# Altium footprint library Misc.SMD.PcbLib: 88 footprints (part 5 of 6)
Each footprint in its own frame and in the unit in brackets; x right, y up, seen from the top. Pads: shape width x height; smd on the part's side, far side on the other; paste and mask are expansions set on the pad; w line width, h text height; cw(c..) or ccw(c..) is an arc to the next point about the centre after c.
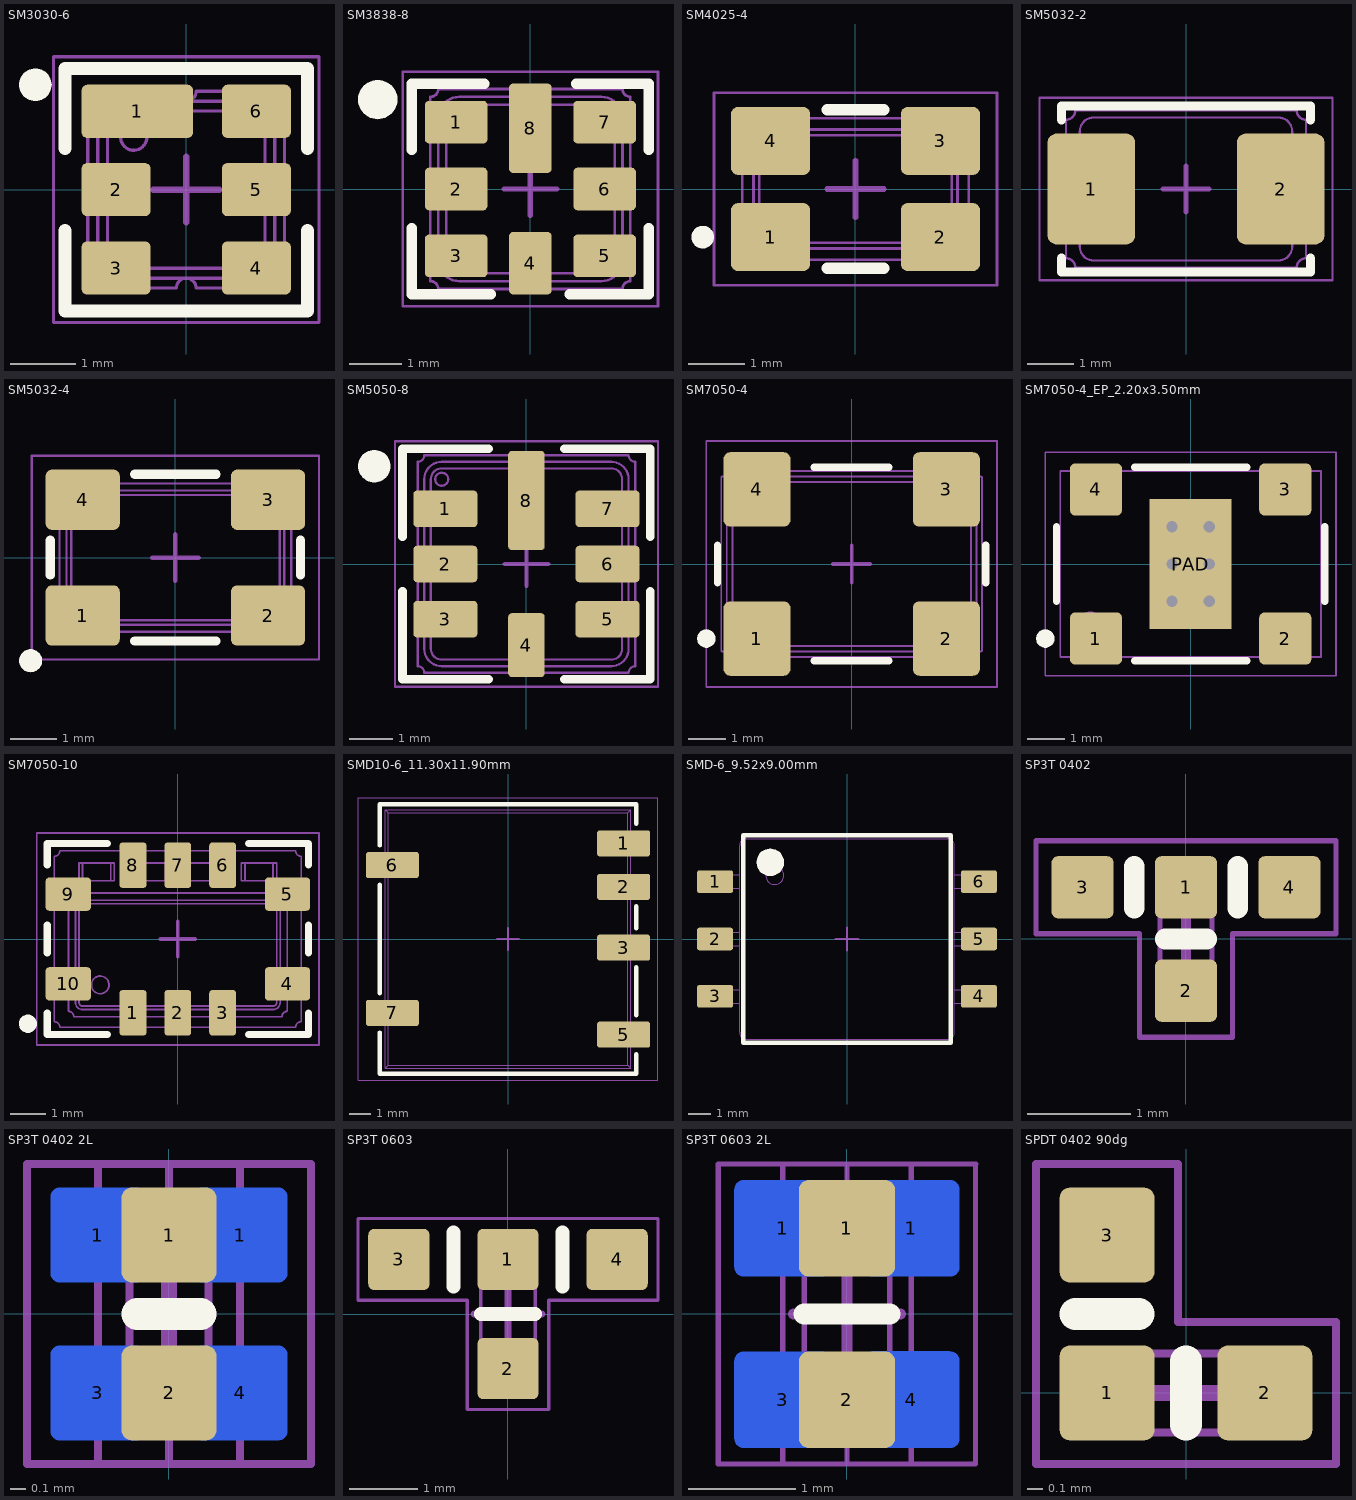
[diagram p4: the footprints below, top view; thin cyan lines are the x and y axes]

## SM3030-6 [mm] "SM3030 Package, 3.00x3.00mm, 6-Leads"
height 1.125
pads (7):
  rrect20% 1.7x0.81 smd: 1(-0.745,1.195)
  rrect20% 1.05x0.81 smd: 2(-1.07,0) 3(-1.07,-1.195) 4(1.07,-1.195) 5(1.07,0) 6(1.07,1.195)
  round 0.5 on Top Overlay: ""(-2.3,1.6)
Top Overlay:
  lines w0.2: -1.85,-0.625 -1.85,-1.85 1.85,-1.85 1.85,-0.625 ; -1.85,0.625 -1.85,1.85 1.85,1.85 1.85,0.625
Mechanical 1:
  circle w0.05: c-0.8,0.8 r0.2
  lines w0.05: -1.5,-1.35 cw(c-1.5,-1.5) -1.35,-1.5 -0.15,-1.5 cw(c0,-1.5) 0.15,-1.5 1.35,-1.5 cw(c1.5,-1.5) 1.5,-1.35 1.5,-0.15 cw(c1.5,0) 1.5,0.15 1.5,1.35 cw(c1.5,1.5) 1.35,1.5 0.15,1.5 cw(c0,1.5) -0.15,1.5 -1.35,1.5 cw(c-1.5,1.5) -1.5,1.35 -1.5,0.15 cw(c-1.5,0) -1.5,-0.15 -1.5,-1.35 ; -1.35,-0.95 ccw(c-0.95,-0.95) -0.95,-1.35 0.95,-1.35 ccw(c0.95,-0.95) 1.35,-0.95 1.35,0.95 ccw(c0.95,0.95) 0.95,1.35 -0.95,1.35 ccw(c-0.95,0.95) -1.35,0.95 -1.35,-0.95 ; -1.2,-0.95 ccw(c-0.95,-0.95) -0.95,-1.2 0.95,-1.2 ccw(c0.95,-0.95) 1.2,-0.95 1.2,0.95 ccw(c0.95,0.95) 0.95,1.2 -0.95,1.2 ccw(c-0.95,0.95) -1.2,0.95 -1.2,-0.95
Mechanical 15:
  lines w0.05: -2.025,-2.025 2.025,-2.025 2.025,2.025 -2.025,2.025 -2.025,-2.025
  lines w0.1: -0.5,0 0.5,0 ; 0,-0.5 0,0.5
3D body "SM3030-6.STEP": height 1.4, standoff 0, extent -1.5,-1.5 1.5,1.5

## SM3838-8 [mm] "SM3838 Package, 3.80x3.80mm, 8-Leads"
height 1.1
pads (9):
  rrect20% 1.19x0.81 smd: 1(-1.41,1.27) 2(-1.41,0) 3(-1.41,-1.27) 5(1.41,-1.27) 6(1.41,0) 7(1.41,1.27)
  rrect20% 0.81x1.19 smd: 4(0,-1.41)
  rrect20% 0.81x1.7 smd: 8(0,1.155)
  round 0.75 on Top Overlay: ""(-2.9,1.7)
Top Overlay:
  lines w0.2: -2.25,-0.75 -2.25,-2 -0.75,-2 ; -2.25,0.75 -2.25,2 -0.875,2 ; 0.75,-2 2.25,-2 2.25,-0.75 ; 0.875,2 2.25,2 2.25,0.75
Mechanical 1:
  circle w0.05: c-1.35,1.35 r0.15
  lines w0.05: -1.9,-1.75 cw(c-1.9,-1.9) -1.75,-1.9 -0.15,-1.9 cw(c0,-1.9) 0.15,-1.9 1.75,-1.9 cw(c1.9,-1.9) 1.9,-1.75 1.9,-1.42 cw(c1.9,-1.27) 1.9,-1.12 1.9,-0.15 cw(c1.9,0) 1.9,0.15 1.9,1.12 cw(c1.9,1.27) 1.9,1.42 1.9,1.75 cw(c1.9,1.9) 1.75,1.9 0.15,1.9 cw(c0,1.9) -0.15,1.9 -1.75,1.9 cw(c-1.9,1.9) -1.9,1.75 -1.9,1.42 cw(c-1.9,1.27) -1.9,1.12 -1.9,0.15 cw(c-1.9,0) -1.9,-0.15 -1.9,-1.12 cw(c-1.9,-1.27) -1.9,-1.42 -1.9,-1.75 ; -1.75,-1.35 ccw(c-1.35,-1.35) -1.35,-1.75 1.35,-1.75 ccw(c1.35,-1.35) 1.75,-1.35 1.75,1.35 ccw(c1.35,1.35) 1.35,1.75 -1.35,1.75 ccw(c-1.35,1.35) -1.75,1.35 -1.75,-1.35 ; -1.6,-1.35 ccw(c-1.35,-1.35) -1.35,-1.6 1.35,-1.6 ccw(c1.35,-1.35) 1.6,-1.35 1.6,1.35 ccw(c1.35,1.35) 1.35,1.6 -1.35,1.6 ccw(c-1.35,1.35) -1.6,1.35 -1.6,-1.35
Mechanical 15:
  lines w0.05: -2.425,-2.225 -2.425,2.225 2.425,2.225 2.425,-2.225 -2.425,-2.225
  lines w0.1: -0.5,0 0.5,0 ; 0,-0.5 0,0.5
3D body "SM3838-8.STEP": height 1.4, standoff 0, extent -1.9,-1.9 1.9,1.9

## SM4025-4 [mm] "SM4025 Package, 4.00x2.50mm, 4-Leads"
height 0.8
pads (4):
  rrect20% 1.4x1.2 smd: 1(-1.5,-0.85) 2(1.5,-0.85) 3(1.5,0.85) 4(-1.5,0.85)
Top Overlay:
  circle w0.2: c-2.7,-0.85 r0.1
  lines w0.2: -0.5,-1.4 0.5,-1.4 ; -0.5,1.4 0.5,1.4
Mechanical 1:
  lines w0.05: -1.319,-0.524 cw(c-1.401,-0.651) -1.307,-0.533 cw(c-1.401,-0.651) -1.287,-0.552 cw(c-1.4,-0.65) -1.281,-0.558 cw(c-1.399,-0.649) -1.278,-0.563 cw(c-1.397,-0.648) -1.274,-0.569 cw(c-1.397,-0.648) -1.27,-0.574 cw(c-1.399,-0.649) -1.267,-0.58 cw(c-1.4,-0.65) -1.264,-0.588 cw(c-1.401,-0.65) -1.258,-0.602 cw(c-1.402,-0.651) -1.252,-0.628 cw(c-1.4,-0.65) -1.251,-0.637 cw(c-1.398,-0.65) -1.25,-0.643 cw(c-1.397,-0.65) -1.25,-0.65 cw(c-1.397,-0.65) -1.25,-0.658 cw(c-1.399,-0.65) -1.251,-0.665 cw(c-1.4,-0.65) -1.252,-0.674 cw(c-1.402,-0.649) -1.266,-0.718 cw(c-1.399,-0.651) -1.27,-0.725 cw(c-1.397,-0.652) -1.273,-0.73 cw(c-1.397,-0.652) -1.278,-0.737 cw(c-1.399,-0.651) -1.282,-0.743 cw(c-1.4,-0.65) -1.288,-0.75 cw(c-1.401,-0.649) -1.325,-0.78 cw(c-1.399,-0.652) -1.332,-0.784 cw(c-1.399,-0.653) -1.338,-0.787 cw(c-1.399,-0.653) -1.344,-0.789 cw(c-1.399,-0.651) -1.351,-0.792 cw(c-1.4,-0.65) -1.36,-0.795 cw(c-1.4,-0.648) -1.407,-0.8 cw(c-1.4,-0.651) -1.414,-0.799 cw(c-1.4,-0.653) -1.421,-0.799 cw(c-1.4,-0.653) -1.428,-0.797 cw(c-1.4,-0.652) -1.435,-0.796 cw(c-1.4,-0.65) -1.445,-0.793 cw(c-1.399,-0.648) -1.487,-0.772 cw(c-1.401,-0.651) -1.493,-0.768 cw(c-1.402,-0.652) -1.498,-0.764 cw(c-1.402,-0.653) -1.503,-0.759 cw(c-1.401,-0.651) -1.509,-0.753 cw(c-1.4,-0.65) -1.515,-0.746 cw(c-1.398,-0.649) -1.539,-0.706 cw(c-1.401,-0.65) -1.542,-0.699 cw(c-1.403,-0.651) -1.544,-0.693 cw(c-1.403,-0.651) -1.546,-0.685 cw(c-1.401,-0.651) -1.547,-0.678 cw(c-1.4,-0.65) -1.549,-0.669 cw(c-1.398,-0.65) -1.547,-0.622 cw(c-1.401,-0.649) -1.546,-0.615 cw(c-1.403,-0.649) -1.544,-0.608 cw(c-1.403,-0.649) -1.542,-0.602 cw(c-1.402,-0.65) -1.54,-0.596 cw(c-1.4,-0.65) -1.536,-0.588 cw(c-1.399,-0.651) -1.53,-0.575 cw(c-1.398,-0.651) -1.513,-0.552 cw(c-1.4,-0.65) -1.507,-0.545 cw(c-1.401,-0.649) -1.503,-0.541 cw(c-1.402,-0.648) -1.488,-0.529 cw(c-1.4,-0.65) -1.481,-0.524 cw(c-1.399,-0.651) -1.469,-0.517 cw(c-1.399,-0.652) -1.442,-0.506 cw(c-1.4,-0.65) -1.434,-0.504 cw(c-1.4,-0.648) -1.427,-0.502 cw(c-1.4,-0.647) -1.408,-0.5 cw(c-1.4,-0.65) -1.4,-0.5 cw(c-1.4,-0.651) -1.386,-0.501 cw(c-1.4,-0.652) -1.357,-0.506 cw(c-1.4,-0.65) -1.349,-0.509 cw(c-1.399,-0.648) -1.343,-0.511 cw(c-1.399,-0.647) -1.338,-0.513 cw(c-1.399,-0.647) -1.332,-0.516 cw(c-1.399,-0.648) -1.326,-0.519 cw(c-1.4,-0.65) -1.319,-0.524 ; -2,-1.05 cw(c-2,-1.25) -1.8,-1.25 1.8,-1.25 cw(c2,-1.25) 2,-1.05 2,1.05 cw(c2,1.25) 1.8,1.25 -1.8,1.25 cw(c-2,1.25) -2,1.05 -2,-1.05 ; -1.8,-0.8 ccw(c-1.55,-0.8) -1.55,-1.05 1.55,-1.05 ccw(c1.55,-0.8) 1.8,-0.8 1.8,0.8 ccw(c1.55,0.8) 1.55,1.05 -1.55,1.05 ccw(c-1.55,0.8) -1.8,0.8 -1.8,-0.8 ; -1.7,-0.8 ccw(c-1.55,-0.8) -1.55,-0.95 1.55,-0.95 ccw(c1.55,-0.8) 1.7,-0.8 1.7,0.8 ccw(c1.55,0.8) 1.55,0.95 -1.55,0.95 ccw(c-1.55,0.8) -1.7,0.8 -1.7,-0.8
Mechanical 15:
  lines w0.05: -2.5,-1.7 -2.5,1.7 2.5,1.7 2.5,-1.7 -2.5,-1.7
  lines w0.1: -0.5,0 0.5,0 ; 0,-0.5 0,0.5
3D body "SM4025-4.STEP": height 0.8, standoff 0, extent -2,-1.25 2,1.25

## SM5032-2 [mm] "SMD Crystal, 5.0x3.2mm Package, 2 Leads"
height 1.3
pads (2):
  rrect20% 1.9x2.4 smd: 1(-2.05,0) 2(2.05,0)
Top Overlay:
  lines w0.2: -2.7,-1.5 -2.7,-1.8 2.7,-1.8 2.7,-1.5 ; -2.7,1.5 -2.7,1.8 2.7,1.8 2.7,1.5
Mechanical 1:
  lines w0.05: -2.6,-0.4 -2.4,-0.4 -2.4,0.4 -2.6,0.4 ; 2.6,-0.4 2.4,-0.4 2.4,0.4 2.6,0.4 ; -2.6,-1.5 cw(c-2.6,-1.7) -2.4,-1.7 2.4,-1.7 cw(c2.6,-1.7) 2.6,-1.5 2.6,-0.387 2.425,-0.387 2.425,0.387 2.6,0.387 2.6,1.5 cw(c2.6,1.7) 2.4,1.7 -2.4,1.7 cw(c-2.6,1.7) -2.6,1.5 -2.6,0.387 -2.425,0.387 -2.425,-0.387 -2.6,-0.387 -2.6,-1.5 ; -2.3,-1.25 ccw(c-2,-1.25) -2,-1.55 2,-1.55 ccw(c2,-1.25) 2.3,-1.25 2.3,1.25 ccw(c2,1.25) 2,1.55 -2,1.55 ccw(c-2,1.25) -2.3,1.25 -2.3,-1.25
Mechanical 15:
  lines w0.05: -3.175,-1.975 -3.175,1.975 3.175,1.975 3.175,-1.975 -3.175,-1.975
  lines w0.1: -0.5,0 0.5,0 ; 0,-0.5 0,0.5
3D body "Abracon_ABM3.STEP": height 1.3, standoff 0, extent -2.6,-1.7 2.6,1.7

## SM5032-4 [mm] "SMD Crystal, 5.0x3.2mm Package, 4 Leads"
height 1.5
pads (5):
  rrect20% 1.6x1.3 smd: 1(-2,-1.25) 2(2,-1.25) 3(2,1.25) 4(-2,1.25)
  round 0.5 on Top Overlay: ""(-3.125,-2.225)
Top Overlay:
  lines w0.2: -2.7,-0.375 -2.7,0.375 ; -0.875,-1.8 0.875,-1.8 ; -0.875,1.8 0.875,1.8 ; 2.7,-0.375 2.7,0.375
Mechanical 1:
  circle w0.05: c-1.9,-1 r0.2
  lines w0.05: -2.5,-1.3 cw(c-2.5,-1.6) -2.2,-1.6 2.2,-1.6 cw(c2.5,-1.6) 2.5,-1.3 2.5,1.3 cw(c2.5,1.6) 2.2,1.6 -2.2,1.6 cw(c-2.5,1.6) -2.5,1.3 -2.5,-1.3 ; -2.35,-1.1 ccw(c-2,-1.1) -2,-1.45 2,-1.45 ccw(c2,-1.1) 2.35,-1.1 2.35,1.1 ccw(c2,1.1) 2,1.45 -2,1.45 ccw(c-2,1.1) -2.35,1.1 -2.35,-1.1 ; -2.25,-1.1 ccw(c-2,-1.1) -2,-1.35 2,-1.35 ccw(c2,-1.1) 2.25,-1.1 2.25,1.1 ccw(c2,1.1) 2,1.35 -2,1.35 ccw(c-2,1.1) -2.25,1.1 -2.25,-1.1
Mechanical 15:
  lines w0.05: -3.1,-2.2 -3.1,2.2 3.1,2.2 3.1,-2.2 -3.1,-2.2
  lines w0.1: -0.5,0 0.5,0 ; 0,-0.5 0,0.5
3D body "FOX924B.STEP": height 1.5, standoff 0, extent -2.5,-1.6 2.5,1.6

## SM5050-8 [mm] "SM5050 Package, 5.00x5.00mm, 8-Leads"
height 1.7
pads (9):
  rrect20% 1.47x0.84 smd: 1(-1.865,1.27) 2(-1.865,0) 3(-1.865,-1.27) 5(1.865,-1.27) 6(1.865,0) 7(1.865,1.27)
  rrect20% 0.84x1.47 smd: 4(0,-1.865)
  rrect20% 0.84x2.28 smd: 8(0,1.46)
  round 0.75 on Top Overlay: ""(-3.5,2.25)
Top Overlay:
  lines w0.2: -2.85,-0.625 -2.85,-2.65 -0.875,-2.65 ; -2.85,0.625 -2.85,2.65 -0.875,2.65 ; 0.875,-2.65 2.85,-2.65 2.85,-0.625 ; 0.875,2.65 2.85,2.65 2.85,0.625
Mechanical 1:
  circle w0.05: c-1.95,1.95 r0.15
  lines w0.05: -2.5,-2.35 cw(c-2.5,-2.5) -2.35,-2.5 -0.15,-2.5 cw(c0,-2.5) 0.15,-2.5 2.35,-2.5 cw(c2.5,-2.5) 2.5,-2.35 2.5,-1.42 cw(c2.5,-1.27) 2.5,-1.12 2.5,-0.15 cw(c2.5,0) 2.5,0.15 2.5,1.12 cw(c2.5,1.27) 2.5,1.42 2.5,2.35 cw(c2.5,2.5) 2.35,2.5 0.15,2.5 cw(c0,2.5) -0.15,2.5 -2.35,2.5 cw(c-2.5,2.5) -2.5,2.35 -2.5,1.42 cw(c-2.5,1.27) -2.5,1.12 -2.5,0.15 cw(c-2.5,0) -2.5,-0.15 -2.5,-1.12 cw(c-2.5,-1.27) -2.5,-1.42 -2.5,-2.35 ; -2.35,-1.95 ccw(c-1.95,-1.95) -1.95,-2.35 1.95,-2.35 ccw(c1.95,-1.95) 2.35,-1.95 2.35,1.95 ccw(c1.95,1.95) 1.95,2.35 -1.95,2.35 ccw(c-1.95,1.95) -2.35,1.95 -2.35,-1.95 ; -2.2,-1.95 ccw(c-1.95,-1.95) -1.95,-2.2 1.95,-2.2 ccw(c1.95,-1.95) 2.2,-1.95 2.2,1.95 ccw(c1.95,1.95) 1.95,2.2 -1.95,2.2 ccw(c-1.95,1.95) -2.2,1.95 -2.2,-1.95
Mechanical 15:
  lines w0.05: -3.025,-2.825 -3.025,2.825 3.025,2.825 3.025,-2.825 -3.025,-2.825
  lines w0.1: -0.5,0 0.5,0 ; 0,-0.5 0,0.5
3D body "SM5050-8.STEP": height 1.7, standoff 0, extent -2.5,-2.5 2.5,2.5

## SM7050-4 [mm] "SMD Crystal, 7.0x5.0mm Package, 4 Leads"
height 1.8
pads (5):
  rrect20% 1.8x2 smd: 1(-2.54,-2) 2(2.54,-2) 3(2.54,2) 4(-2.54,2)
  round 0.5 on Top Overlay: ""(-3.9,-2)
Top Overlay:
  lines w0.2: -3.6,-0.5 -3.6,0.5 ; -1,-2.6 1,-2.6 ; -1,2.6 1,2.6 ; 3.6,-0.5 3.6,0.5
Mechanical 1:
  lines w0.05: -3.5,-2.341 cw(c-3.5,-2.5) -3.341,-2.5 3.341,-2.5 cw(c3.5,-2.5) 3.5,-2.341 3.5,2.341 cw(c3.5,2.5) 3.341,2.5 -3.341,2.5 cw(c-3.5,2.5) -3.5,2.341 -3.5,-2.341 ; -3.35,-1.8 ccw(c-2.8,-1.8) -2.8,-2.35 2.8,-2.35 ccw(c2.8,-1.8) 3.35,-1.8 3.35,1.8 ccw(c2.8,1.8) 2.8,2.35 -2.8,2.35 ccw(c-2.8,1.8) -3.35,1.8 -3.35,-1.8 ; -3.2,-1.8 ccw(c-2.8,-1.8) -2.8,-2.2 2.8,-2.2 ccw(c2.8,-1.8) 3.2,-1.8 3.2,1.8 ccw(c2.8,1.8) 2.8,2.2 -2.8,2.2 ccw(c-2.8,1.8) -3.2,1.8 -3.2,-1.8 ; -2.898,-1.638 ccw(c-2.6,-1.6) -2.895,-1.656 ccw(c-2.603,-1.601) -2.891,-1.671 ccw(c-2.606,-1.602) -2.888,-1.686 ccw(c-2.606,-1.602) -2.884,-1.698 ccw(c-2.603,-1.601) -2.878,-1.712 ccw(c-2.597,-1.598) -2.83,-1.793 ccw(c-2.599,-1.6) -2.817,-1.807 ccw(c-2.602,-1.602) -2.807,-1.817 ccw(c-2.604,-1.605) -2.796,-1.828 ccw(c-2.604,-1.605) -2.785,-1.836 ccw(c-2.602,-1.602) -2.773,-1.845 ccw(c-2.598,-1.597) -2.689,-1.886 ccw(c-2.599,-1.6) -2.671,-1.891 ccw(c-2.6,-1.603) -2.656,-1.895 ccw(c-2.601,-1.607) -2.641,-1.897 ccw(c-2.601,-1.606) -2.628,-1.899 ccw(c-2.601,-1.603) -2.613,-1.9 ccw(c-2.601,-1.596) -2.52,-1.889 ccw(c-2.6,-1.6) -2.502,-1.883 ccw(c-2.599,-1.603) -2.488,-1.878 ccw(c-2.597,-1.606) -2.476,-1.873 ccw(c-2.597,-1.606) -2.464,-1.867 ccw(c-2.599,-1.603) -2.451,-1.86 ccw(c-2.602,-1.597) -2.376,-1.8 ccw(c-2.6,-1.6) -2.364,-1.785 ccw(c-2.597,-1.602) -2.355,-1.773 ccw(c-2.594,-1.604) -2.347,-1.761 ccw(c-2.595,-1.603) -2.34,-1.749 ccw(c-2.598,-1.602) -2.333,-1.736 ccw(c-2.604,-1.599) -2.304,-1.649 ccw(c-2.6,-1.599) -2.302,-1.63 ccw(c-2.597,-1.6) -2.3,-1.615 ccw(c-2.594,-1.6) -2.3,-1.6 ccw(c-2.593,-1.6) -2.3,-1.587 ccw(c-2.597,-1.6) -2.301,-1.574 ccw(c-2.6,-1.6) -2.303,-1.557 ccw(c-2.604,-1.601) -2.316,-1.504 ccw(c-2.603,-1.601) -2.327,-1.476 ccw(c-2.6,-1.599) -2.334,-1.46 ccw(c-2.597,-1.598) -2.341,-1.449 ccw(c-2.594,-1.596) -2.348,-1.438 ccw(c-2.594,-1.596) -2.355,-1.427 ccw(c-2.597,-1.598) -2.363,-1.416 ccw(c-2.599,-1.6) -2.374,-1.403 ccw(c-2.603,-1.603) -2.413,-1.365 ccw(c-2.602,-1.602) -2.438,-1.348 ccw(c-2.6,-1.599) -2.452,-1.339 ccw(c-2.599,-1.597) -2.464,-1.333 ccw(c-2.597,-1.594) -2.476,-1.327 ccw(c-2.597,-1.594) -2.486,-1.322 ccw(c-2.598,-1.597) -2.498,-1.318 ccw(c-2.599,-1.6) -2.514,-1.312 ccw(c-2.601,-1.604) -2.572,-1.301 ccw(c-2.601,-1.603) -2.6,-1.3 ccw(c-2.6,-1.6) -2.617,-1.301 ccw(c-2.601,-1.594) -2.654,-1.305 ccw(c-2.6,-1.596) -2.667,-1.308 ccw(c-2.6,-1.599) -2.684,-1.312 ccw(c-2.598,-1.604) -2.738,-1.334 ccw(c-2.599,-1.603) -2.762,-1.348 ccw(c-2.601,-1.6) -2.776,-1.357 ccw(c-2.604,-1.595) -2.805,-1.381 ccw(c-2.602,-1.597) -2.815,-1.391 ccw(c-2.6,-1.599) -2.826,-1.403 ccw(c-2.597,-1.602) -2.86,-1.451 ccw(c-2.598,-1.602) -2.873,-1.476 ccw(c-2.601,-1.6) -2.88,-1.491 ccw(c-2.604,-1.599) -2.884,-1.504 ccw(c-2.607,-1.598) -2.888,-1.516 ccw(c-2.606,-1.598) -2.891,-1.529 ccw(c-2.603,-1.599) -2.895,-1.544 ccw(c-2.596,-1.6) -2.898,-1.638
Mechanical 15:
  lines w0.05: -3.9,-3.3 -3.9,3.3 3.9,3.3 3.9,-3.3 -3.9,-3.3
  lines w0.1: -0.5,0 0.5,0 ; 0,-0.5 0,0.5
3D body "SM7050-4.STEP": height 1.8, standoff 0, extent -3.5,-2.5 3.5,2.5

## SM7050-4_EP_2.20x3.50mm [mm] "SMD Crystal, 5.0x3.2mm Package, 2.2x3.5mm Exposed Pad, 4 Leads"
height 0.85
pads (6):
  rrect20% 1.4x1.4 smd: 1(-2.54,-2) 2(2.54,-2) 3(2.54,2) 4(-2.54,2)
  rect 2.2x3.5 smd: PAD(0,0)
  round 0.5 on Top Overlay: ""(-3.9,-2)
via 0.5,-1 diameter 0.6 hole 0.3
via -0.5,-1 diameter 0.6 hole 0.3
via -0.5,1 diameter 0.6 hole 0.3
via 0.5,1 diameter 0.6 hole 0.3
via 0.5,0 diameter 0.6 hole 0.3
via -0.5,0 diameter 0.6 hole 0.3
Top Overlay:
  lines w0.2: -3.6,-1 -3.6,1 ; -1.5,-2.6 1.5,-2.6 ; -1.5,2.6 1.5,2.6 ; 3.6,-1 3.6,1
Mechanical 1:
  lines w0.05: -3.5,-2.5 3.5,-2.5 3.5,2.5 -3.5,2.5 -3.5,-2.5 ; -3.1,-1.7 ccw(c-2.705,-1.7) -3.099,-1.723 ccw(c-2.697,-1.699) -3.08,-1.824 ccw(c-2.7,-1.7) -3.07,-1.852 ccw(c-2.704,-1.702) -3.061,-1.873 ccw(c-2.704,-1.702) -3.051,-1.893 ccw(c-2.698,-1.698) -2.988,-1.977 ccw(c-2.7,-1.7) -2.966,-1.998 ccw(c-2.703,-1.704) -2.949,-2.013 ccw(c-2.703,-1.703) -2.931,-2.027 ccw(c-2.699,-1.698) -2.84,-2.075 ccw(c-2.7,-1.7) -2.812,-2.084 ccw(c-2.701,-1.704) -2.79,-2.09 ccw(c-2.701,-1.705) -2.768,-2.094 ccw(c-2.7,-1.697) -2.662,-2.098 ccw(c-2.7,-1.7) -2.632,-2.094 ccw(c-2.699,-1.705) -2.61,-2.09 ccw(c-2.699,-1.704) -2.588,-2.084 ccw(c-2.701,-1.698) -2.494,-2.043 ccw(c-2.7,-1.7) -2.469,-2.027 ccw(c-2.697,-1.703) -2.451,-2.013 ccw(c-2.697,-1.704) -2.434,-1.998 ccw(c-2.702,-1.698) -2.365,-1.919 ccw(c-2.7,-1.7) -2.349,-1.893 ccw(c-2.696,-1.702) -2.339,-1.873 ccw(c-2.696,-1.702) -2.33,-1.852 ccw(c-2.703,-1.699) -2.304,-1.758 ccw(c-2.7,-1.7) -2.301,-1.725 ccw(c-2.696,-1.7) -2.3,-1.7 ccw(c-2.695,-1.7) -2.301,-1.677 ccw(c-2.703,-1.701) -2.32,-1.576 ccw(c-2.7,-1.7) -2.33,-1.548 ccw(c-2.696,-1.698) -2.339,-1.527 ccw(c-2.696,-1.698) -2.349,-1.507 ccw(c-2.702,-1.702) -2.412,-1.423 ccw(c-2.7,-1.7) -2.434,-1.402 ccw(c-2.697,-1.696) -2.451,-1.387 ccw(c-2.697,-1.696) -2.467,-1.375 ccw(c-2.701,-1.702) -2.565,-1.324 ccw(c-2.699,-1.696) -2.63,-1.306 ccw(c-2.7,-1.703) -2.743,-1.302 ccw(c-2.701,-1.696) -2.807,-1.315 ccw(c-2.699,-1.702) -2.912,-1.361 ccw(c-2.702,-1.697) -2.963,-1.398 ccw(c-2.698,-1.702) -3.038,-1.486 ccw(c-2.703,-1.698) -3.068,-1.543 ccw(c-2.697,-1.701) -3.097,-1.652 ccw(c-2.701,-1.7) -3.099,-1.68 ccw(c-2.705,-1.7) -3.1,-1.7
Mechanical 15:
  lines w0.05: -3.9,-3 -3.9,3 3.9,3 3.9,-3 -3.9,-3
  lines w0.1: -0.5,0 0.5,0 ; 0,-0.5 0,0.5
3D body "SM7050-4_EP_2.20x3.50mm.STEP": height 0.85, standoff 0, extent -3.5,-2.5 3.5,2.5

## SM7050-10 [mm] "SMD Crystal, 7.0x5.0mm Package, 10 Leads"
height 2.4
pads (10):
  rrect20% 0.76x1.28 smd: 1(-1.27,-2.09) 2(0,-2.09) 3(1.27,-2.09) 6(1.27,2.09) 7(0,2.09) 8(-1.27,2.09)
  rrect20% 1.28x0.94 smd: 4(3.105,-1.27) 5(3.105,1.27) 9(-3.105,1.27) 10(-3.105,-1.27)
Top Overlay:
  region: -4.25,-2.65 -4.3,-2.65 -4.392,-2.612 -4.462,-2.542 -4.5,-2.45 -4.5,-2.4 -4.5,-2.35 -4.462,-2.258 -4.392,-2.188 -4.3,-2.15 -4.25,-2.15 -4.2,-2.15 -4.108,-2.188 -4.038,-2.258 -4,-2.35 -4,-2.4 -4,-2.45 -4.038,-2.542 -4.108,-2.612 -4.2,-2.65
  lines w0.2: -3.7,-2.1 -3.7,-2.7 -2,-2.7 ; -3.7,-0.4 -3.7,0.4 ; -3.7,2.1 -3.7,2.7 -2,2.7 ; 2,-2.7 3.7,-2.7 3.7,-2.1 ; 2,2.7 3.7,2.7 3.7,2.1 ; 3.7,-0.4 3.7,0.4
Mechanical 1:
  circle w0.05: c-2.2,-1.3 r0.25
  lines w0.05: -2.7,1.65 -2.7,2.15 ; -1.9,1.65 -1.9,2.15 ; -1.15,1.65 -1.15,2.15 ; -0.35,1.65 -0.35,2.15 ; 0.35,1.65 0.35,2.15 ; 1.15,1.65 1.15,2.15 ; 1.9,1.65 1.9,2.15 ; 2.7,1.65 2.7,2.15 ; -3.5,-2.341 cw(c-3.5,-2.5) -3.341,-2.5 -1.429,-2.5 cw(c-1.27,-2.5) -1.111,-2.5 -0.159,-2.5 cw(c0,-2.5) 0.159,-2.5 1.111,-2.5 cw(c1.27,-2.5) 1.429,-2.5 3.341,-2.5 cw(c3.5,-2.5) 3.5,-2.341 3.5,-1.429 cw(c3.5,-1.27) 3.5,-1.111 3.5,1.111 cw(c3.5,1.27) 3.5,1.429 3.5,2.341 cw(c3.5,2.5) 3.341,2.5 1.429,2.5 cw(c1.27,2.5) 1.111,2.5 0.159,2.5 cw(c0,2.5) -0.159,2.5 -1.111,2.5 cw(c-1.27,2.5) -1.429,2.5 -3.341,2.5 cw(c-3.5,2.5) -3.5,2.341 -3.5,1.429 cw(c-3.5,1.27) -3.5,1.111 -3.5,-1.111 cw(c-3.5,-1.27) -3.5,-1.429 -3.5,-2.341 ; -3.1,-2.05 cw(c-3.1,-2.2) -2.95,-2.2 2.95,-2.2 cw(c3.1,-2.2) 3.1,-2.05 3.1,1.15 cw(c3.1,1.3) 2.95,1.3 -2.95,1.3 cw(c-3.1,1.3) -3.1,1.15 -3.1,-2.05 ; -2.9,-1.8 ccw(c-2.7,-1.8) -2.7,-2 2.7,-2 ccw(c2.7,-1.8) 2.9,-1.8 2.9,0.9 ccw(c2.7,0.9) 2.7,1.1 -2.7,1.1 ccw(c-2.7,0.9) -2.9,0.9 -2.9,-1.8 ; -2.8,-1.8 ccw(c-2.7,-1.8) -2.7,-1.9 2.7,-1.9 ccw(c2.7,-1.8) 2.8,-1.8 2.8,0.9 ccw(c2.7,0.9) 2.7,1 -2.7,1 ccw(c-2.7,0.9) -2.8,0.9 -2.8,-1.8 ; -2.8,1.65 -2.8,2.15 -1.8,2.15 -1.8,1.65 -2.8,1.65 ; -1.25,1.65 -1.25,2.15 -0.25,2.15 -0.25,1.65 -1.25,1.65 ; 0.25,1.65 0.25,2.15 1.25,2.15 1.25,1.65 0.25,1.65 ; 1.8,1.65 1.8,2.15 2.8,2.15 2.8,1.65 1.8,1.65
Mechanical 15:
  lines w0.05: -4,-3 4,-3 4,3 -4,3 -4,-3
  lines w0.1: -0.5,0 0.5,0 ; 0,-0.5 0,0.5
3D body "SM7050-10.STEP": height 2.4, standoff 0, extent -3.5,-2.5 3.5,2.5

## SMD10-6_11.30x11.90mm [mm] "SMD10 Package, 11.30x11.90mm, 6-Leads"
height 8
pads (6):
  rrect20% 2.44x1.2 smd: 1(5.32,4.4) 2(5.32,2.4) 3(5.32,-0.4) 5(5.32,-4.4) 6(-5.32,3.4) 7(-5.32,-3.4)
Top Overlay:
  lines w0.2: -5.9,-4.3 -5.9,-6.2 5.9,-6.2 5.9,-5.3 ; -5.9,-2.5 -5.9,2.5 ; -5.9,4.3 -5.9,6.2 5.9,6.2 5.9,5.3 ; 5.9,-3.5 5.9,-1.3 ; 5.9,0.5 5.9,1.5
Mechanical 1:
  lines w0.05: -5.645,-3.65 -6.05,-3.65 -6.05,-3.15 -5.645,-3.15 ; -5.645,3.15 -6.05,3.15 -6.05,3.65 -5.645,3.65 ; 5.645,-4.65 6.05,-4.65 6.05,-4.15 5.645,-4.15 ; 5.645,-0.65 6.05,-0.65 6.05,-0.15 5.645,-0.15 ; 5.645,2.15 6.05,2.15 6.05,2.65 5.645,2.65 ; 5.645,4.15 6.05,4.15 6.05,4.65 5.645,4.65 ; -5.65,-5.95 5.65,-5.95 ; -5.65,-5.95 -5.65,-5.45 -5.645,-5.45 -5.645,5.45 -5.65,5.45 -5.65,5.95 ; -5.65,-5.95 -5.517,-5.817 ; -5.65,5.95 5.65,5.95 ; -5.65,5.95 -5.517,5.817 ; -5.517,-5.817 -5.517,5.817 ; -5.517,-5.817 5.517,-5.817 ; -5.517,5.817 5.517,5.817 ; 5.517,-5.817 5.65,-5.95 ; 5.517,-5.817 5.517,5.817 ; 5.517,5.817 5.65,5.95 ; 5.65,-5.95 5.65,-5.45 5.645,-5.45 5.645,5.45 5.65,5.45 5.65,5.95
Mechanical 15:
  lines w0.05: -6.9,-6.5 6.9,-6.5 6.9,6.5 -6.9,6.5 -6.9,-6.5
  lines w0.1: -0.5,0 0.5,0 ; 0,-0.5 0,0.5
3D body "trn3sm_single_3d_drawing.stp": height 8, standoff 0, extent -6.05,-5.95 6.05,5.95

## SMD-6_9.52x9.00mm [mm] "SMD-6 Package, 9.52x9.00mm Body, 2.54mm Pitch, 6-Lead"
height 6.35
pads (6):
  rrect20% 1.6x1 smd: 1(-5.85,2.54) 2(-5.85,0) 3(-5.85,-2.54) 4(5.85,-2.54) 5(5.85,0) 6(5.85,2.54)
Top Overlay:
  region: -3.4,4 -3.447,4 -3.541,3.985 -3.63,3.956 -3.714,3.913 -3.791,3.858 -3.858,3.791 -3.913,3.714 -3.956,3.63 -3.985,3.54 -4,3.447 -4,3.353 -3.985,3.259 -3.956,3.17 -3.913,3.086 -3.858,3.009 -3.791,2.942 -3.714,2.887 -3.63,2.844 -3.541,2.815 -3.447,2.8 -3.4,2.8 -3.353,2.8 -3.26,2.815 -3.17,2.844 -3.086,2.887 -3.009,2.942 -2.942,3.009 -2.887,3.086 -2.844,3.17 -2.815,3.259 -2.8,3.353 -2.8,3.447 -2.815,3.54 -2.844,3.63 -2.887,3.714 -2.942,3.791 -3.009,3.858 -3.086,3.913 -3.17,3.956 -3.26,3.985 -3.353,4
  lines w0.2: -4.6,-4.6 4.6,-4.6 4.6,4.6 -4.6,4.6 -4.6,-4.6
Mechanical 1:
  circle w0.05: c-3.204,2.817 r0.4
  lines w0.05: -4.76,-2.84 -6.35,-2.84 -6.35,-2.24 -4.76,-2.24 ; -4.76,-0.3 -6.35,-0.3 -6.35,0.3 -4.76,0.3 ; -4.76,2.24 -6.35,2.24 -6.35,2.84 -4.76,2.84 ; 4.76,-2.84 6.35,-2.84 6.35,-2.24 4.76,-2.24 ; 4.76,-0.3 6.35,-0.3 6.35,0.3 4.76,0.3 ; 4.76,2.24 6.35,2.24 6.35,2.84 4.76,2.84 ; -4.76,-4.145 ccw(c-4.46,-4.145) -4.46,-4.445 4.46,-4.445 ccw(c4.46,-4.145) 4.76,-4.145 4.76,4.145 ccw(c4.46,4.145) 4.46,4.445 -4.46,4.445 ccw(c-4.46,4.145) -4.76,4.145 -4.76,-4.145
Mechanical 15:
  lines w0.1: -0.5,0 0.5,0 ; 0,-0.5 0,0.5
3D body "mps_mag_da100j_smt_a.STEP": height 6.6, standoff 0, extent -6.35,-4.445 6.35,4.445

## SP3T 0402 [mm] "0402 Strap Resistor"
height 0.5
pads (4):
  rrect20% 0.6x0.6 smd: 1(0,0.5) 2(0,-0.5) 3(-1,0.5) 4(1,0.5)
Top Overlay:
  lines w0.2: -0.5,0.3 -0.5,0.7 ; -0.2,0 0.2,0 ; 0.5,0.3 0.5,0.7
Mechanical 1:
  lines w0.05: -0.25,-0.3 0.25,-0.3 ; -0.25,0.3 0.25,0.3 ; -0.25,-0.5 -0.25,0.5 0.25,0.5 0.25,-0.5 -0.25,-0.5
Mechanical 15:
  lines w0.05: -1.45,0.05 -0.45,0.05 -0.45,-0.95 0.45,-0.95 0.45,0.05 1.45,0.05 1.45,0.95 -1.45,0.95 -1.45,0.05
  lines w0.1: -0.25,0 0.25,0 ; 0,-0.25 0,0.25
3D body "R_0402_1005Metric.step": height 0.35, standoff 0, extent -0.25,-0.5 0.25,0.5

## SP3T 0402 2L [mm] "0402 Strap Resistor, Dual Layer"
height 0.5
pads (6):
  rrect20% 0.6x0.6 smd far side: 1(-0.45,0.5) 1(0.45,0.5) 3(-0.45,-0.5) 4(0.45,-0.5)
  rrect20% 0.6x0.6 smd: 1(0,0.5) 2(0,-0.5)
Top Overlay:
  lines w0.2: -0.2,0 0.2,0
Bottom Overlay:
  lines w0.2: -0.65,0 -0.25,0 ; 0.25,0 0.65,0
Mechanical 1:
  lines w0.05: -0.25,-0.3 0.25,-0.3 ; -0.25,0.3 0.25,0.3 ; -0.25,-0.5 0.25,-0.5 0.25,0.5 -0.25,0.5 -0.25,-0.5
Mechanical 15:
  lines w0.05: -0.45,-0.95 0.45,-0.95 0.45,0.95 -0.45,0.95 -0.45,-0.95
  lines w0.1: -0.25,0 0.25,0 ; 0,-0.25 0,0.25
Mechanical 16:
  lines w0.05: 0,-0.95 -0.9,-0.95 -0.9,0.95 0,0.95 ; 0,-0.95 0,0.95 ; 0,-0.95 0.9,-0.95 0.9,0.95 0,0.95 ; 0,-0.95 0,0.95
3D body "R_0402_1005Metric.step": height 0.35, standoff 0, extent -0.25,-0.5 0.25,0.5

## SP3T 0603 [mm] "0603 Strap Resistor"
pads (4):
  rrect20% 0.9x0.9 smd: 1(0,0.8) 2(0,-0.8) 3(-1.6,0.8) 4(1.6,0.8)
Top Overlay:
  lines w0.2: -0.8,0.4 -0.8,1.2 ; -0.4,0 0.4,0 ; 0.8,0.4 0.8,1.2
Mechanical 1:
  lines w0.05: -0.4,-0.5 0.4,-0.5 ; -0.4,0.5 0.4,0.5 ; -0.4,-0.8 0.4,-0.8 0.4,0.8 -0.4,0.8 -0.4,-0.8
Mechanical 15:
  lines w0.05: -2.2,0.2 -0.6,0.2 -0.6,-1.4 0.6,-1.4 0.6,0.2 2.2,0.2 2.2,1.4 -2.2,1.4 -2.2,0.2
  lines w0.1: -0.5,0 0.5,0 ; 0,-0.5 0,0.5
3D body "R_0603_1608Metric.step": height 0.45, standoff 0, extent -0.4,-0.8 0.4,0.8

## SP3T 0603 2L [mm] "0603 Strap Resistor, Dual Layer"
pads (6):
  rrect20% 0.9x0.9 smd far side: 1(-0.6,0.8) 1(0.6,0.8) 3(-0.6,-0.8) 4(0.6,-0.8)
  rrect20% 0.9x0.9 smd: 1(0,0.8) 2(0,-0.8)
Top Overlay:
  lines w0.2: -0.4,0 0.4,0
Bottom Overlay:
  lines w0.2: -1,0 -0.2,0 ; 0.2,0 1,0
Mechanical 1:
  lines w0.05: -0.4,-0.5 0.4,-0.5 ; -0.4,0.5 0.4,0.5 ; -0.4,-0.8 0.4,-0.8 0.4,0.8 -0.4,0.8 -0.4,-0.8
Mechanical 15:
  lines w0.05: -0.6,-1.4 -0.6,1.4 0.6,1.4 0.6,-1.4 -0.6,-1.4
  lines w0.1: -0.5,0 0.5,0 ; 0,-0.5 0,0.5
Mechanical 16:
  lines w0.05: 0,-1.4 0,1.4 ; 0,-1.4 1.2,-1.4 1.2,1.4 0,1.4 ; 0,-1.4 0,1.4 ; 0,-1.4 -1.2,-1.4 -1.2,1.4 0,1.4
3D body "R_0603_1608Metric.step": height 0.45, standoff 0, extent -0.4,-0.8 0.4,0.8

## SPDT 0402 90dg [mm] "0402 Strap Resistor, 90-Degree Angle"
height 0.5
pads (3):
  rrect20% 0.6x0.6 smd: 1(-0.5,0) 2(0.5,0) 3(-0.5,1)
Top Overlay:
  lines w0.2: -0.7,0.5 -0.3,0.5 ; 0,-0.2 0,0.2
Mechanical 1:
  lines w0.05: -0.3,-0.25 -0.3,0.25 ; 0.3,-0.25 0.3,0.25 ; -0.5,-0.25 0.5,-0.25 0.5,0.25 -0.5,0.25 -0.5,-0.25
Mechanical 15:
  lines w0.05: -0.95,-0.45 -0.95,1.45 -0.05,1.45 -0.05,0.45 0.95,0.45 0.95,-0.45 -0.95,-0.45
  lines w0.1: -0.25,0 0.25,0 ; 0,-0.25 0,0.25
3D body "R_0402_1005Metric.step": height 0.35, standoff 0, extent -0.5,-0.25 0.5,0.25